# EAGLE library part BQ25896RTWR (library MOTO_LIB)
Charging IC, TI BQ2589x
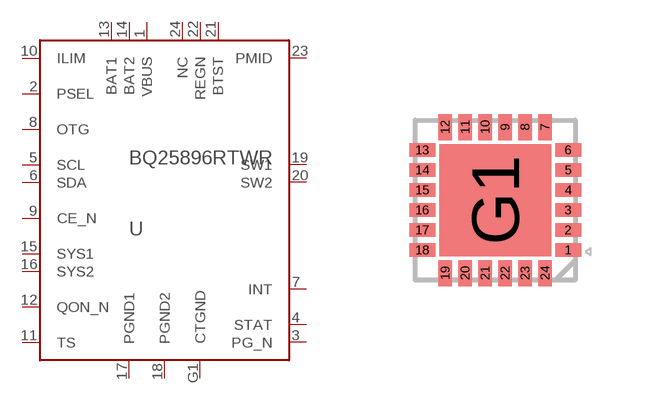
[diagram p15: symbol with the pads of QFN4X4PS0_5P25; footprint QFN4X4PS0_5P25]

Designator prefix U

## BQ25896RTWR (MPN: BQ25896RTWR; SUPPLIER: TI)  [QFN4X4PS0_5P25]
1  VBUS
2  PSEL
3  PG_N
4  STAT
5  SCL
6  SDA
7  INT
8  OTG
9  CE_N
10  ILIM
11  TS
12  QON_N
13  BAT1
14  BAT2
15  SYS1
16  SYS2
17  PGND1
18  PGND2
19  SW1
20  SW2
21  BTST
22  REGN
23  PMID
24  NC
G1  CTGND

## Footprint QFN4X4PS0_5P25 (pad centres in mm)
smd 0.65 x 0.33: 1 1.825,-1.25; 2 1.825,-0.75; 3 1.825,-0.25; 4 1.825,0.25; 5 1.825,0.75; 6 1.825,1.25; 13 -1.825,1.25; 14 -1.825,0.75; 15 -1.825,0.25; 16 -1.825,-0.25; 17 -1.825,-0.75; 18 -1.825,-1.25
smd 0.33 x 0.65: 7 1.25,1.825; 8 0.75,1.825; 9 0.25,1.825; 10 -0.25,1.825; 11 -0.75,1.825; 12 -1.25,1.825; 19 -1.25,-1.825; 20 -0.75,-1.825; 21 -0.25,-1.825; 22 0.25,-1.825; 23 0.75,-1.825; 24 1.25,-1.825
smd 2.8 x 2.8: G1 0,0